# Altium footprint library Mezeq_ICs.PcbLib: 16 footprints
Each footprint in its own frame and in the unit in brackets; x right, y up, seen from the top. Pads: shape width x height; smd on the part's side, far side on the other; paste and mask are expansions set on the pad; w line width, h text height; cw(c..) or ccw(c..) is an arc to the next point about the centre after c.
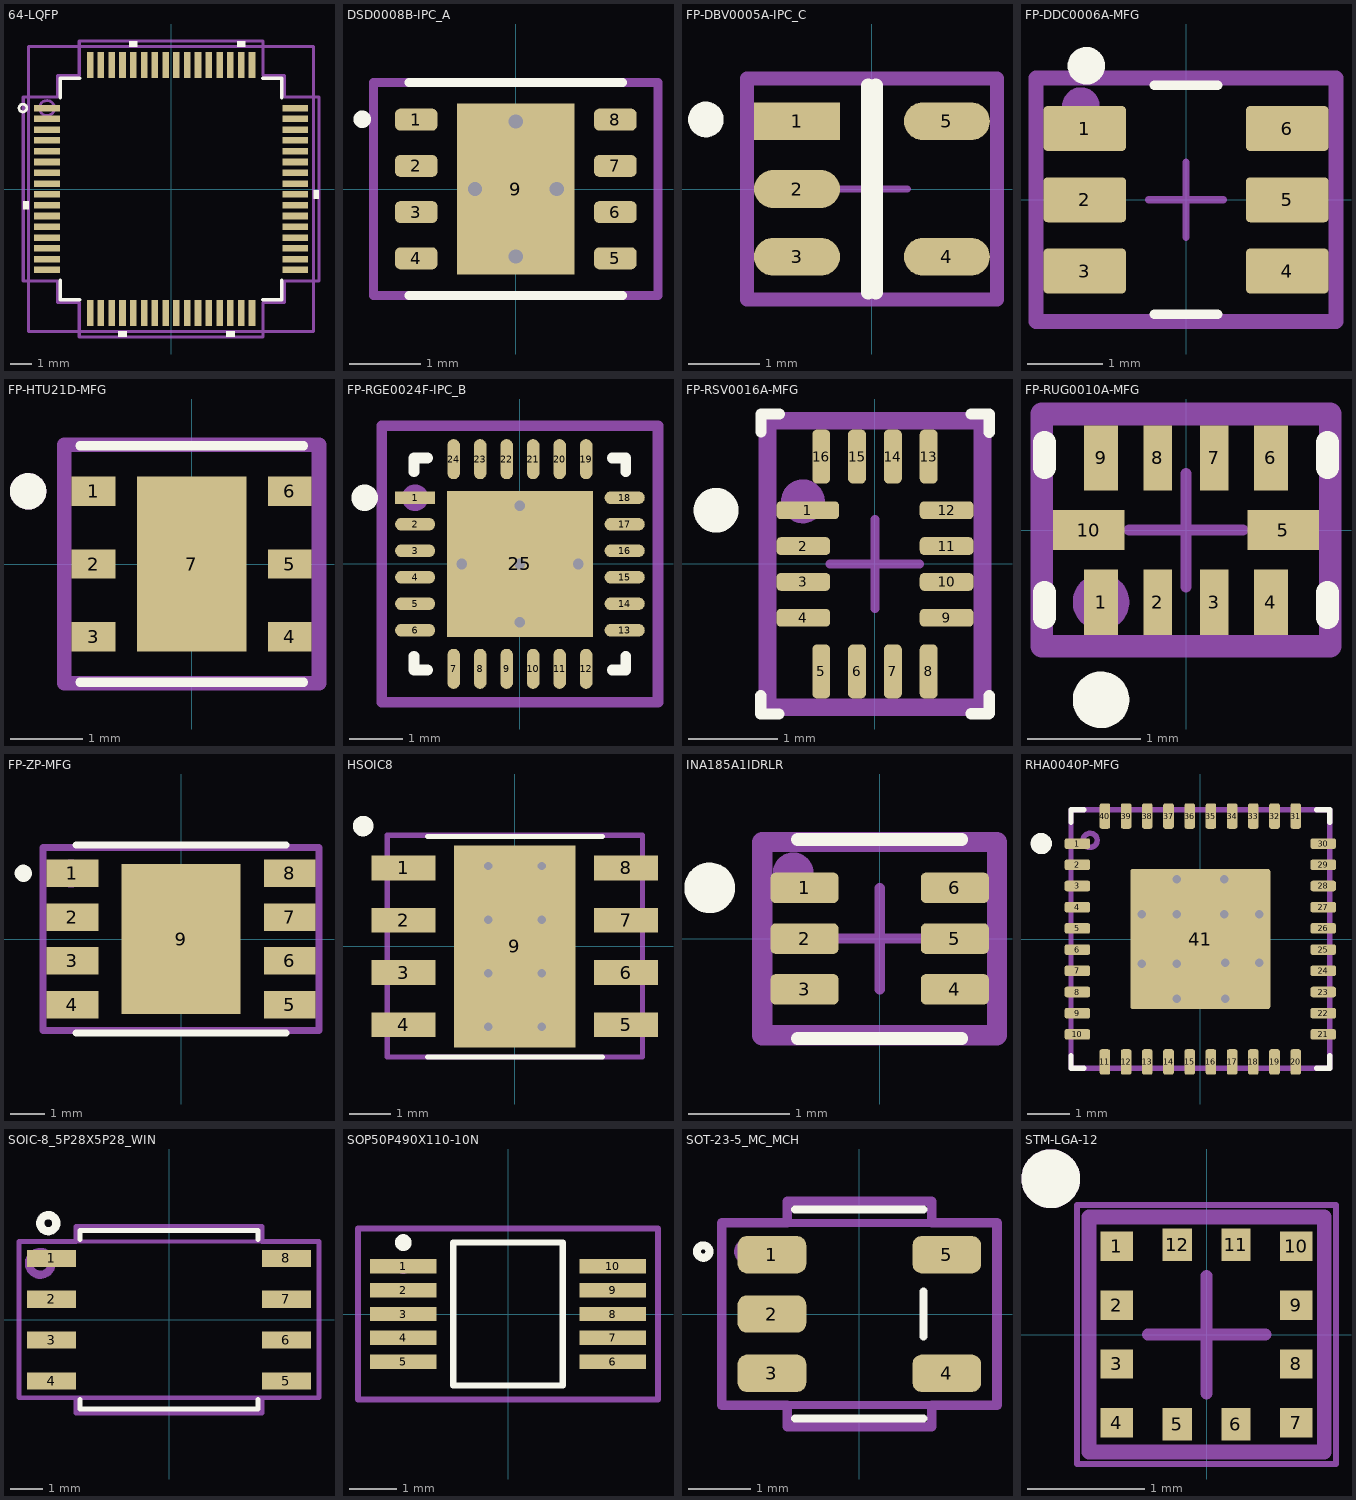
[diagram p0: the footprints below, top view; thin cyan lines are the x and y axes]

## 64-LQFP [mm]
pads (64):
  rect 1.194x0.305 smd paste+0 mask+0: 1(-5.75,3.75) 2(-5.75,3.25) 3(-5.75,2.75) 4(-5.75,2.25) 5(-5.75,1.75) 6(-5.75,1.25) 7(-5.75,0.75) 8(-5.75,0.25) 9(-5.75,-0.25) 10(-5.75,-0.75) 11(-5.75,-1.25) 12(-5.75,-1.75) 13(-5.75,-2.25) 14(-5.75,-2.75) 15(-5.75,-3.25) 16(-5.75,-3.75) 33(5.75,-3.75) 34(5.75,-3.25) 35(5.75,-2.75) 36(5.75,-2.25) 37(5.75,-1.75) 38(5.75,-1.25) 39(5.75,-0.75) 40(5.75,-0.25) 41(5.75,0.25) 42(5.75,0.75) 43(5.75,1.25) 44(5.75,1.75) 45(5.75,2.25) 46(5.75,2.75) 47(5.75,3.25) 48(5.75,3.75)
  rect 0.305x1.194 smd paste+0 mask+0: 17(-3.75,-5.75) 18(-3.25,-5.75) 19(-2.75,-5.75) 20(-2.25,-5.75) 21(-1.75,-5.75) 22(-1.25,-5.75) 23(-0.75,-5.75) 24(-0.25,-5.75) 25(0.25,-5.75) 26(0.75,-5.75) 27(1.25,-5.75) 28(1.75,-5.75) 29(2.25,-5.75) 30(2.75,-5.75) 31(3.25,-5.75) 32(3.75,-5.75) 49(3.75,5.75) 50(3.25,5.75) 51(2.75,5.75) 52(2.25,5.75) 53(1.75,5.75) 54(1.25,5.75) 55(0.75,5.75) 56(0.25,5.75) 57(-0.25,5.75) 58(-0.75,5.75) 59(-1.25,5.75) 60(-1.75,5.75) 61(-2.25,5.75) 62(-2.75,5.75) 63(-3.25,5.75) 64(-3.75,5.75)
Top Overlay:
  circle w0.127: c-6.866,3.75 r0.18
  region: -6.601,-0.56 -6.855,-0.56 -6.855,-0.941 -6.601,-0.941
  region: -2.06,-6.601 -2.441,-6.601 -2.441,-6.855 -2.06,-6.855
  region: 2.94,-6.601 2.559,-6.601 2.559,-6.855 2.94,-6.855
  region: 6.601,-0.059 6.855,-0.059 6.855,-0.44 6.601,-0.44
  region: 3.441,6.601 3.06,6.601 3.06,6.855 3.441,6.855
  region: -1.559,6.601 -1.94,6.601 -1.94,6.855 -1.559,6.855
  lines w0.152: -5.131,-4.234 -5.131,-5.131 -4.234,-5.131 ; -5.131,4.234 -5.131,5.131 -4.234,5.131 ; 4.234,-5.131 5.131,-5.131 5.131,-4.234 ; 4.234,5.131 5.131,5.131 5.131,4.234
Top Assembly:
  circle w0.127: c-5.75,3.75 r0.348
  lines w0.127: -6.604,-6.604 6.604,-6.604 6.604,6.604 -6.604,6.604 -6.604,-6.604
  text ".Designator" at -7.618,-0.508 h1.52
Top Courtyard:
  lines w0.152: -6.855,-4.258 -5.258,-4.258 -5.258,-5.258 -4.258,-5.258 -4.258,-6.855 4.258,-6.855 4.258,-5.258 5.258,-5.258 5.258,-4.258 6.855,-4.258 6.855,4.258 5.258,4.258 5.258,5.258 4.258,5.258 4.258,6.855 -4.258,6.855 -4.258,5.258 -5.258,5.258 -5.258,4.258 -6.855,4.258 -6.855,-4.258
3D body "LQFP64-10x10mm_STM.step": height 1.6, standoff 0, extent -5.997,-5.997 5.997,5.997

## DSD0008B-IPC_A [mm] "WSON - 0.8 mm max height  / Texas Instruments / DSD0008B"
height 0.8
pads (9):
  rrect50% 0.6x0.31 smd: 1(-1.4,0.975) 2(-1.4,0.325) 3(-1.4,-0.325) 4(-1.4,-0.975) 5(1.4,-0.975) 6(1.4,-0.325) 7(1.4,0.325) 8(1.4,0.975)
  rect 1.65x2.4 smd paste-2539.97 mask+0: 9(0,0)
via 0,-0.95 diameter 0.4 hole 0.2
via 0,0.95 diameter 0.4 hole 0.2
via 0.575,0 diameter 0.4 hole 0.2
via -0.575,0 diameter 0.4 hole 0.2
Top Overlay:
  circle w0.127: c-2.16,0.982 r0.06
  lines w0.127: -1.5,-1.5 1.5,-1.5 ; -1.5,1.5 1.5,1.5
Top Paste:
  region: -0.737,-0.1 -0.737,-1.17 0.733,-1.17 0.733,-0.1
  region: 0.737,0.1 0.737,1.17 -0.733,1.17 -0.733,0.1
Top Assembly:
  circle w0.127: c-1.4,0.975 r0.061
  lines w0.127: -2,-1.5 -2,1.5 2,1.5 2,-1.5 -2,-1.5
  text ".Designator" at -4.998,-0.333 h1
3D body "DSD0008B.stp": height 0.77, standoff 0, extent -1.5,-1.5 1.5,1.5

## FP-DBV0005A-IPC_C [mm]
pads (5):
  rect 1.205x0.532 smd paste+0 mask+0: 1(-1.05,0.95)
  rrect100% 1.205x0.532 smd paste+0 mask+0: 2(-1.05,0) 3(-1.05,-0.95) 4(1.05,-0.95) 5(1.05,0.95)
Top Overlay:
  circle w0.25: c-2.328,0.975 r0.125
  lines w0.2: -0.052,-1.45 -0.052,1.45 ; 0.052,-1.45 0.052,1.45
Top Assembly:
  circle w0.127: c-1.05,0.95 r0.115
  lines w0.127: -1.753,-1.55 1.753,-1.55 1.753,1.55 -1.753,1.55 -1.753,-1.55
  text ".Designator" at -4.998,-0.333 h1
Top Courtyard:
  lines w0.2: -1.753,-1.55 1.753,-1.55 1.753,1.55 -1.753,1.55 -1.753,-1.55
Top Component Center:
  lines w0.1: -0.5,0 0.5,0 ; 0,-0.5 0,0.5
3D body "IC_Texas_Instruments_SN74AHC1G00DBVR_eec.STEP": height 0.25, standoff 0, extent -1.753,-1.55 1.753,1.55

## FP-DDC0006A-MFG [mm]
pads (6):
  rrect17% 1.1x0.6 smd: 1(-1.35,0.95) 2(-1.35,0) 3(-1.35,-0.95) 4(1.35,-0.95) 5(1.35,0) 6(1.35,0.95)
Top Overlay:
  circle w0.25: c-1.329,1.787 r0.125
  lines w0.127: -0.425,-1.525 0.425,-1.525 ; -0.425,1.525 0.425,1.525
Top Assembly:
  circle w0.25: c-1.401,1.25 r0.125
  lines w0.127: -2,-1.625 2,-1.625 2,1.625 -2,1.625 -2,-1.625
  text ".Designator" at -4.998,-0.333 h1
Top Courtyard:
  lines w0.2: -2,-1.625 2,-1.625 2,1.625 -2,1.625 -2,-1.625
Top Component Center:
  lines w0.1: -0.5,0 0.5,0 ; 0,-0.5 0,0.5
3D body "IC_Texas_Instruments_TPS562201DDCT_eec.STEP": height 1.1, standoff 0, extent -1.4,-1.45 1.4,1.45

## FP-HTU21D-MFG [mm]
pads (7):
  rect 0.6x0.4 smd: 1(-1.35,1) 2(-1.35,0) 3(-1.35,-1) 4(1.35,-1) 5(1.35,0) 6(1.35,1)
  rect 1.5x2.4 smd: 7(0,0)
Top Overlay:
  circle w0.25: c-2.25,1 r0.125
  lines w0.127: -1.538,-1.625 1.538,-1.625 ; -1.538,1.625 1.538,1.625
Top Assembly:
  circle w0.25: c-2.25,1 r0.125
  lines w0.127: -1.75,-1.637 1.75,-1.637 1.75,1.637 -1.75,1.637 -1.75,-1.637
  text ".Designator" at -4.998,-0.333 h1
Top Courtyard:
  lines w0.2: -1.75,-1.637 1.75,-1.637 1.75,1.637 -1.75,1.637 -1.75,-1.637
Top Component Center:
  lines w0.1: -0.5,0 0.5,0 ; 0,-0.5 0,0.5
3D body "IC_TE_HTU21D_eec.STEP": height 1.01, standoff 0, extent -1.5,-1.5 1.5,1.5

## FP-RGE0024F-IPC_B [mm]
pads (25):
  rect 0.756x0.239 smd: 1(-1.978,1.25)
  rrect100% 0.756x0.239 smd: 2(-1.978,0.75) 3(-1.978,0.25) 4(-1.978,-0.25) 5(-1.978,-0.75) 6(-1.978,-1.25) 13(1.978,-1.25) 14(1.978,-0.75) 15(1.978,-0.25) 16(1.978,0.25) 17(1.978,0.75) 18(1.978,1.25)
  rrect100% 0.239x0.756 smd: 7(-1.25,-1.978) 8(-0.75,-1.978) 9(-0.25,-1.978) 10(0.25,-1.978) 11(0.75,-1.978) 12(1.25,-1.978) 19(1.25,1.978) 20(0.75,1.978) 21(0.25,1.978) 22(-0.25,1.978) 23(-0.75,1.978) 24(-1.25,1.978)
  rect 2.75x2.75 smd paste-2539.97: 25(0,0)
via 0,1.1 diameter 0.4 hole 0.2
via 0,-1.1 diameter 0.4 hole 0.2
via -1.1,0 diameter 0.4 hole 0.2
via 1.1,0 diameter 0.4 hole 0.2
via 0,0 diameter 0.4 hole 0.2
Top Overlay:
  circle w0.25: c-2.931,1.25 r0.125
  lines w0.2: -2,-1.745 -2,-2 -1.745,-2 ; -2,1.745 -2,2 -1.745,2 ; 1.745,-2 2,-2 2,-1.745 ; 1.745,2 2,2 2,1.745
Top Paste:
  region: -0.133,-1.367 -0.133,-0.133 -1.367,-0.133 -1.367,-1.367
  region: 0.133,1.367 0.133,0.133 1.367,0.133 1.367,1.367
  region: 1.367,-0.133 0.133,-0.133 0.133,-1.367 1.367,-1.367
  rectangle: -1.367,0.133 -0.133,1.367
Top Assembly:
  circle w0.25: c-1.979,1.25 r0.125
  lines w0.127: -2.606,-2.606 2.606,-2.606 2.606,2.606 -2.606,2.606 -2.606,-2.606
  text ".Designator" at -4.998,-0.333 h1
Top Courtyard:
  lines w0.2: -2.606,-2.606 2.606,-2.606 2.606,2.606 -2.606,2.606 -2.606,-2.606
Top Component Center:
  lines w0.1: -0.5,0 0.5,0 ; 0,-0.5 0,0.5
3D body "IC_Texas_Instruments_DRV8701PRGER_eec.STEP": height 1, standoff 0, extent -2,-2 2,2

## FP-RSV0016A-MFG [mm]
pads (16):
  rrect50% 0.7x0.2 smd mask+0.045: 1(-0.75,0.6)
  rrect50% 0.6x0.2 smd mask+0.045: 2(-0.8,0.2) 3(-0.8,-0.2) 4(-0.8,-0.6) 9(0.8,-0.6) 10(0.8,-0.2) 11(0.8,0.2) 12(0.8,0.6)
  rrect50% 0.2x0.6 smd mask+0.045: 5(-0.6,-1.2) 6(-0.2,-1.2) 7(0.2,-1.2) 8(0.6,-1.2) 13(0.6,1.2) 14(0.2,1.2) 15(-0.2,1.2) 16(-0.6,1.2)
Top Overlay:
  circle w0.25: c-1.775,0.6 r0.125
  lines w0.127: -1.274,-1.675 -1.074,-1.675 ; -1.274,-1.671 -1.274,-1.471 ; -1.273,1.475 -1.273,1.675 ; -1.27,1.675 -1.07,1.675 ; 1.072,-1.674 1.272,-1.674 ; 1.074,1.675 1.274,1.675 ; 1.275,-1.669 1.275,-1.469 ; 1.275,1.472 1.275,1.672
Top Assembly:
  circle w0.25: c-0.805,0.7 r0.12
  lines w0.127: -1.2,-1.6 1.2,-1.6 1.2,1.6 -1.2,1.6 -1.2,-1.6
  text ".Designator" at -2.499,-0.167 h0.5
Top Courtyard:
  lines w0.2: -1.2,-1.6 1.2,-1.6 1.2,1.6 -1.2,1.6 -1.2,-1.6
Top Component Center:
  lines w0.1: -0.5,0 0.5,0 ; 0,-0.5 0,0.5
3D body "IC_Texas_Instruments_TCAL9538RSVR_eec.STEP": height 0.55, standoff 0, extent -0.9,-1.3 0.9,1.3

## FP-RUG0010A-MFG [mm]
pads (10):
  rect 0.3x0.575 smd mask+0.045: 1(-0.75,-0.637) 4(0.75,-0.637) 6(0.75,0.637) 9(-0.75,0.637)
  rect 0.25x0.575 smd mask+0.045: 2(-0.25,-0.637) 3(0.25,-0.637) 7(0.25,0.637) 8(-0.25,0.637)
  rect 0.63x0.35 smd mask+0.045: 5(0.86,0) 10(-0.86,0)
Top Overlay:
  circle w0.25: c-0.75,-1.5 r0.125
  lines w0.2: -1.25,-0.775 -1.25,-0.55 ; -1.25,0.55 -1.25,0.775 ; 1.25,-0.775 1.25,-0.55 ; 1.25,0.55 1.25,0.775
Top Paste:
  rectangle: 0.625,0.375 0.875,0.9
  rectangle: 0.125,0.375 0.375,0.9
  rectangle: -0.375,0.375 -0.125,0.9
  rectangle: -0.875,0.375 -0.625,0.9
  rectangle: 0.625,-0.9 0.875,-0.375
  rectangle: 0.125,-0.9 0.375,-0.375
  rectangle: -0.375,-0.9 -0.125,-0.375
  rectangle: -0.875,-0.9 -0.625,-0.375
  rectangle: 0.57,-0.15 1.15,0.15
  rectangle: -1.15,-0.15 -0.57,0.15
Top Assembly:
  circle w0.25: c-0.75,-0.637 r0.125
  lines w0.127: -1.275,-1.025 -1.275,1.025 1.275,1.025 1.275,-1.025 -1.275,-1.025
  text ".Designator" at -2.499,-0.167 h0.5
Top Courtyard:
  lines w0.2: -1.275,-1.025 -1.275,1.025 1.275,1.025 1.275,-1.025 -1.275,-1.025
Top Component Center:
  lines w0.1: -0.5,0 0.5,0 ; 0,-0.5 0,0.5
3D body "IC_Texas_Instruments_TLA2024IRUGR_eec.STEP": height 0.4, standoff 0, extent -1,-0.75 1,0.75

## FP-ZP-MFG [mm]
pads (9):
  rect 1.5x0.8 smd: 1(-3.15,1.905) 2(-3.15,0.635) 3(-3.15,-0.635) 4(-3.15,-1.905) 5(3.15,-1.905) 6(3.15,-0.635) 7(3.15,0.635) 8(3.15,1.905)
  rect 3.45x4.35 smd: 9(0,0)
Top Overlay:
  circle w0.25: c-4.575,1.905 r0.125
  lines w0.2: -3.05,-2.725 3.05,-2.725 ; -3.05,2.725 3.05,2.725
Top Paste:
  rectangle: 2.5,1.555 3.9,2.255
  rectangle: 2.5,0.285 3.9,0.985
  rectangle: 2.5,-0.985 3.9,-0.285
  rectangle: 2.5,-2.255 3.9,-1.555
  rectangle: -3.9,-2.255 -2.5,-1.555
  rectangle: -3.9,-0.985 -2.5,-0.285
  rectangle: -3.9,0.285 -2.5,0.985
  rectangle: -3.9,1.555 -2.5,2.255
Top Assembly:
  circle w0.254: c-3.2,1.9 r0.283
  lines w0.2: -4,-2.65 -4,2.65 4,2.65 4,-2.65 -4,-2.65
  text ".Designator" at -9.997,-0.666 h2
Top Courtyard:
  lines w0.2: -4,-2.65 -4,2.65 4,2.65 4,-2.65 -4,-2.65
Top Component Center:
  lines w0.1: -0.5,0 0.5,0 ; 0,-0.5 0,0.5
3D body "IC_Winbond_Electronics_W25Q32JVZPIQ_eec.STEP": height 0.6, standoff 0, extent -3.005,-2.5 3.005,2.5

## HSOIC8 [mm]
pads (9):
  rect 1.55x0.6 smd: 1(-2.7,1.905) 2(-2.7,0.635) 3(-2.7,-0.635) 4(-2.7,-1.905) 5(2.7,-1.905) 6(2.7,-0.635) 7(2.7,0.635) 8(2.7,1.905)
  rect 2.95x4.9 smd: 9(0,0)
via -0.65,1.95 diameter 0.457 hole 0.203
via 0.65,1.95 diameter 0.457 hole 0.203
via -0.65,-1.95 diameter 0.457 hole 0.203
via 0.65,-1.95 diameter 0.457 hole 0.203
via -0.65,-0.65 diameter 0.457 hole 0.203
via 0.65,-0.65 diameter 0.457 hole 0.203
via -0.65,0.65 diameter 0.457 hole 0.203
via 0.65,0.65 diameter 0.457 hole 0.203
Top Overlay:
  circle w0.25: c-3.683,2.921 r0.125
  lines w0.127: -2.115,-2.688 2.127,-2.688 ; -2.115,2.666 2.127,2.666
Top Assembly:
  circle w0.25: c-2.6,1.9 r0.125
  lines w0.127: -3.1,-2.688 -3.1,2.7 3.1,2.7 3.1,-2.688 -3.1,-2.688
  text ".Designator" at -4.998,-0.333 h1
Top Component Center:
  lines w0.1: -0.5,0 0.5,0 ; 0,-0.5 0,0.5
3D body "SOIC8_DDA_TEX.step": height 1.7, standoff 0, extent -3.093,-2.513 3.105,2.491

## INA185A1IDRLR [mm]
pads (6):
  rrect33% 0.67x0.3 smd mask+0.045: 1(-0.74,0.5) 2(-0.74,0) 3(-0.74,-0.5) 4(0.74,-0.5) 5(0.74,0) 6(0.74,0.5)
Top Overlay:
  circle w0.25: c-1.675,0.5 r0.125
  lines w0.127: -0.808,-0.983 0.808,-0.983 ; -0.808,0.975 0.808,0.975
Top Assembly:
  circle w0.2: c-0.853,0.65 r0.1
  lines w0.127: -1.156,-0.953 -1.156,0.953 1.156,0.953 1.156,-0.953 -1.156,-0.953
  text ".Designator" at -2.499,-0.167 h0.5
Top Courtyard:
  lines w0.2: -1.156,-0.953 -1.156,0.953 1.156,0.953 1.156,-0.953 -1.156,-0.953
Top Component Center:
  lines w0.1: -0.5,0 0.5,0 ; 0,-0.5 0,0.5
3D body "DRL0006A.stp": height 0.6, standoff 0, extent -0.792,-0.786 0.808,0.779

## RHA0040P-MFG [mm]
pads (41):
  rrect40% 0.6x0.25 smd mask+0: 1(-2.9,2.25) 2(-2.9,1.75) 3(-2.9,1.25) 4(-2.9,0.75) 5(-2.9,0.25) 6(-2.9,-0.25) 7(-2.9,-0.75) 8(-2.9,-1.25) 9(-2.9,-1.75) 10(-2.9,-2.25) 21(2.9,-2.25) 22(2.9,-1.75) 23(2.9,-1.25) 24(2.9,-0.75) 25(2.9,-0.25) 26(2.9,0.25) 27(2.9,0.75) 28(2.9,1.25) 29(2.9,1.75) 30(2.9,2.25)
  rrect40% 0.25x0.6 smd paste+0 mask+0: 11(-2.25,-2.9) 12(-1.75,-2.9) 13(-1.25,-2.9) 14(-0.75,-2.9) 15(-0.25,-2.9) 16(0.25,-2.9) 17(0.75,-2.9) 18(1.25,-2.9) 19(1.75,-2.9) 20(2.25,-2.9) 31(2.25,2.9) 32(1.75,2.9) 33(1.25,2.9) 34(0.75,2.9) 35(0.25,2.9) 36(-0.25,2.9) 37(-0.75,2.9) 38(-1.25,2.9) 39(-1.75,2.9) 40(-2.25,2.9)
  rrect3% 3.3x3.3 smd paste-1000 mask+0: 41(0,0)
via -0.56,-1.408 diameter 0.45 hole 0.2
via 0.583,-1.408 diameter 0.45 hole 0.2
via -0.56,0.583 diameter 0.45 hole 0.2
via 0.56,0.583 diameter 0.45 hole 0.2
via -0.56,-0.583 diameter 0.45 hole 0.2
via 0.583,-0.56 diameter 0.45 hole 0.2
via 1.385,0.583 diameter 0.45 hole 0.2
via 1.385,-0.56 diameter 0.45 hole 0.2
via -1.385,-0.583 diameter 0.45 hole 0.2
via -1.385,0.583 diameter 0.45 hole 0.2
via -0.56,1.408 diameter 0.45 hole 0.2
via 0.56,1.408 diameter 0.45 hole 0.2
Top Overlay:
  circle w0.25: c-3.75,2.25 r0.125
  lines w0.127: -3.05,-2.75 -3.05,-3.05 -2.75,-3.05 ; -3.05,2.75 -3.05,3.05 -2.75,3.05 ; 2.75,-3.05 3.05,-3.05 3.05,-2.75 ; 2.75,3.05 3.05,3.05 3.05,2.75
Top Paste:
  drawing of 9 lines, arcs and shapes, not listed
Top Assembly:
  circle w0.127: c-2.6,2.326 r0.167
  lines w0.127: -3.05,-3.05 3.05,-3.05 3.05,3.05 -3.05,3.05 -3.05,-3.05
  text ".Designator" at -4.998,-0.333 h1
3D body "IC_LM51772RHAR_VQFN40.STEP": height 1, standoff 0, extent -3,-3 3,3

## SOIC-8_5P28X5P28_WIN [mil] "8-Pin SOIC 208-mil (Package Code SS)"
height 76.77
pads (8):
  rect 60x21 smd: 1(-143.5,75) 2(-143.5,25) 3(-143.5,-25) 4(-143.5,-75) 5(143.5,-75) 6(143.5,-25) 7(143.5,25) 8(143.5,75)
Top Overlay:
  circle w10: c-147.64,118.11 r9.84
  lines w6: -109,-97.8 -109,-109 109,-109 109,-97.8 ; -109,97.8 -109,109 109,109 109,97.8
Top Assembly:
  circle w10: c-157.48,68.9 r13.92
  lines w5: -183.5,-95.5 -183.5,95.5 183.5,95.5 183.5,-95.5 -183.5,-95.5
  text ".Designator" at -299.9,-19.99 h60
Top Courtyard:
  lines w6: -183.5,-95.5 -114,-95.5 -114,-114 114,-114 114,-95.5 183.5,-95.5 183.5,95.5 114,95.5 114,114 -114,114 -114,95.5 -183.5,95.5 -183.5,-95.5
3D body "SOIC-8_5P28X5P28_WIN.step": height 85.12, standoff 0, extent -159.49,-104.02 159.49,104.02

## SOP50P490X110-10N [mm]
pads (10):
  rect 1.4x0.3 smd mask+0.04: 1(-2.2,1) 2(-2.2,0.5) 3(-2.2,0) 4(-2.2,-0.5) 5(-2.2,-1) 6(2.2,-1) 7(2.2,-0.5) 8(2.2,0) 9(2.2,0.5) 10(2.2,1)
Top Overlay:
  circle w0.25: c-2.2,1.5 r0.051
  lines w0.127: -1.15,-1.5 -1.15,1.5 1.15,1.5 1.15,-1.5 -1.15,-1.5
Top Assembly:
  circle w0.127: c-2.2,1 r0.095
  lines w0.127: -3.15,-1.8 -3.15,1.8 3.15,1.8 3.15,-1.8 -3.15,-1.8
  text ".Designator" at -7.618,-0.508 h1.52
3D body "THVD1452DGSR.stp": height 1.1, standoff 0, extent -2.463,-1.5 2.463,1.5

## SOT-23-5_MC_MCH [mm] "5-Lead Plastic Small Outline Transistor (OT) [SOT-23] MICROCHIP"
height 1.45
pads (5):
  rrect50% 1.1x0.6 smd paste+0 mask+0: 1(-1.4,0.95) 2(-1.4,0) 3(-1.4,-0.95) 4(1.4,-0.95) 5(1.4,0.95)
Top Overlay:
  circle w0.127: c-2.5,1 r0.1
  lines w0.127: -1.029,-1.676 1.029,-1.676 ; -1.029,1.676 1.029,1.676 ; 1.029,-0.363 1.029,0.363
Top Assembly:
  circle w0.127: c-1.8,1 r0.141
  lines w0.127: -2.204,-1.458 2.204,-1.458 2.204,1.458 -2.204,1.458 -2.204,-1.458
  text ".Designator" at -4.998,-0.333 h1
Top Courtyard:
  lines w0.152: -2.204,-1.458 -2.204,1.458 -1.156,1.458 -1.156,1.803 1.156,1.803 1.156,1.458 2.204,1.458 2.204,-1.458 1.156,-1.458 1.156,-1.803 -1.156,-1.803 -1.156,-1.458 -2.204,-1.458
3D body "SOT-23-5_MC_MCH.step": height 1.45, standoff 0, extent -1.6,-1.549 1.6,1.549

## STM-LGA-12 [mm] "LGA, 12-Leads, Body 2x2mm, Pitch 0.5mm"
height 1
pads (12):
  rect 0.275x0.25 smd mask+0.05: 1(-0.763,0.75) 2(-0.763,0.25) 3(-0.763,-0.25) 4(-0.763,-0.75) 7(0.763,-0.75) 8(0.763,-0.25) 9(0.763,0.25) 10(0.763,0.75)
  rect 0.25x0.275 smd mask+0.05: 5(-0.25,-0.762) 6(0.25,-0.762) 11(0.25,0.763) 12(-0.25,0.763)
Top Overlay:
  circle w0.25: c-1.325,1.325 r0.125
Top Assembly:
  circle w0.25: c-1.325,1.325 r0.125
  lines w0.127: -1,-1 1,-1 1,1 -1,1 -1,-1
  text ".Designator" at -2.499,-0.167 h0.5
Top Courtyard:
  lines w0.05: -1.1,-1.1 1.1,-1.1 1.1,1.1 -1.1,1.1 -1.1,-1.1
  lines w0.1: -0.5,0 0.5,0 ; 0,-0.5 0,0.5
3D body: height 1, standoff 0, extent -1,-1 1,1